# EAGLE library part HDR-12_ (library Chromation)
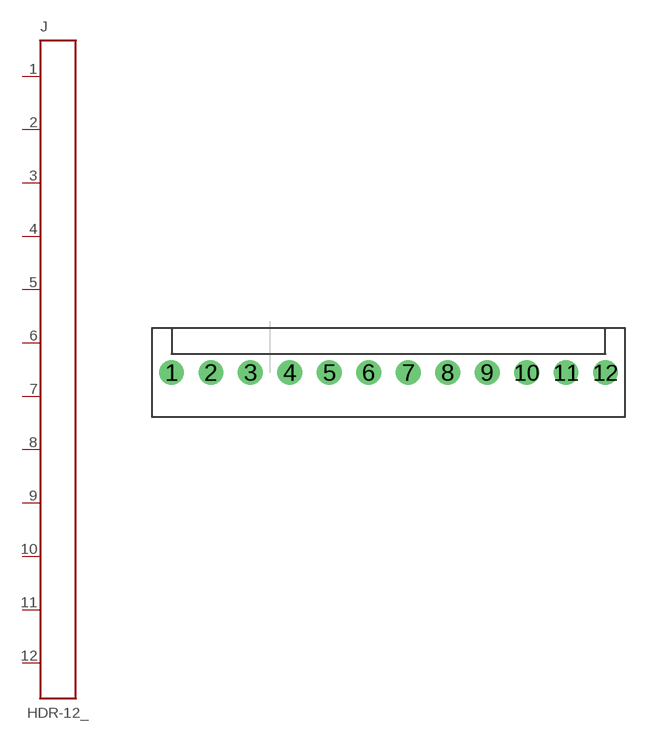
[diagram p20: symbol with the pads of HDR-12_MTA-100-1-640454-2; footprint HDR-12_MTA-100-1-640454-2]

Designator prefix J

## HDR-12_MTA-100-1-640454-2  [HDR-12_MTA-100-1-640454-2]
1  PIN1
2  PIN2
3  PIN3
4  PIN4
5  PIN5
6  PIN6
7  PIN7
8  PIN8
9  PIN9
10  PIN10
11  PIN11
12  PIN12

## Footprint HDR-12_MTA-100-1-640454-2 (pad centres in mm)
drill 1.067: 1 -13.97,0; 2 -11.43,0; 3 -8.89,0; 4 -6.35,0; 5 -3.81,0; 6 -1.27,0; 7 1.27,0; 8 3.81,0; 9 6.35,0; 10 8.89,0; 11 11.43,0; 12 13.97,0